# Altium integrated library Diodes - TVS.IntLib: 5379 symbols (part 122 of 122)
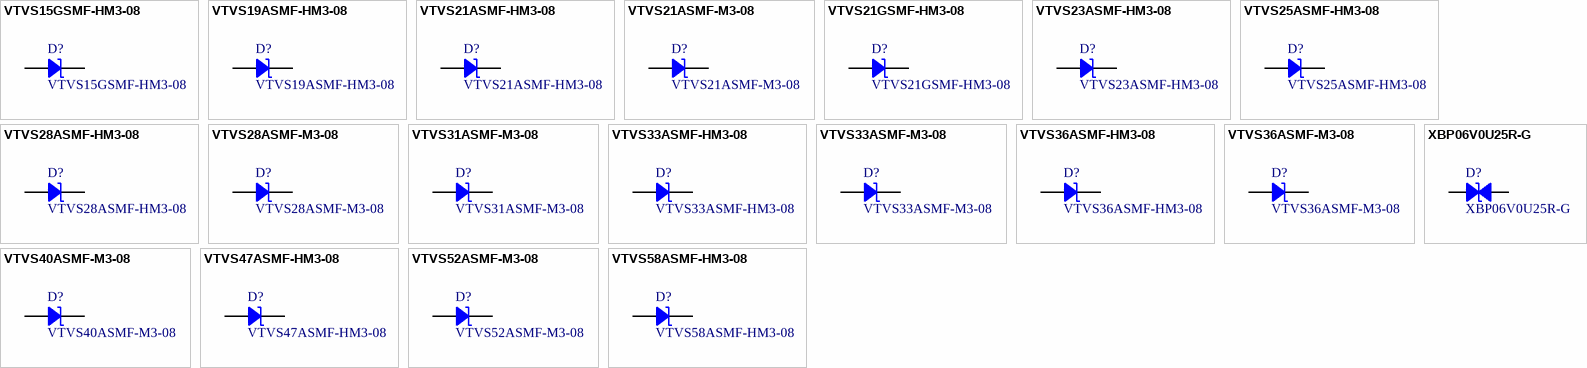
[diagram p255: symbols VTVS15GSMF-HM3-08 to XBP06V0U25R-G]

## VTVS33ASMF-HM3-08
designator D?
TVS DIODE 33.3V 55V DO219AB; Manufacturer: Vishay Semiconductor Diodes Division; Capacitance @ Frequency: 379pF @ 1MHz; Current - Peak Pulse (10/1000µs): 6.91A; Power Line Protection: No; Power - Peak Pulse: 400W; Type: Zener; Unidirectional Channels: 1; Voltage - Breakdown (Min): 37.1V; Part Number: VTVS33ASMF-HM3-08; Applications: Automotive; ComponentLink1Description: Datasheet; ComponentLink1URL: http://www.vishay.com/docs/85891/vtvs3v3asmf.pdf; ComponentLink2Description: DigiKey Link; ComponentLink2URL: http://digikey.com/product-detail/en/vishay-semiconductor-diodes-division/VTVS33ASMF-HM3-08/VTVS33ASMF-HM3-08GICT-ND/7055993; LastUpdated: 9/2/2020 1:27:45 AM; Lifecycle Status: Active; Minimum Order: 1; Mounting Type: Surface Mount; Operating Temperature: -55°C ~ 175°C (TJ); Package / Case: DO-219AB; Packaging: TapeAndReel; PartId: 5526; Part Status: Active; Price: 0.12; Series: Automotive, AEC-Q101, TransZorb®; Supplier 1: DigiKey; Supplier Part Number 1: VTVS33ASMF-HM3-08GICT-ND; Supplier Device Package: DO-219AB (SMF); Voltage - Clamping (Max) @ Ipp: 55V; Voltage - Reverse Standoff (Typ): 33.3V
footprint SMF DO-219AB
pins: 1, 2

## VTVS33ASMF-M3-08
designator D?
TVS DIODE 33.3V 55V DO219AB; Manufacturer: Vishay Semiconductor Diodes Division; Capacitance @ Frequency: 379pF @ 1MHz; Current - Peak Pulse (10/1000µs): 6.91A; Power Line Protection: No; Power - Peak Pulse: 400W; Type: Zener; Unidirectional Channels: 1; Voltage - Breakdown (Min): 37.1V; Part Number: VTVS33ASMF-M3-08; Applications: General Purpose; ComponentLink1Description: Datasheet; ComponentLink1URL: http://www.vishay.com/docs/85891/vtvs3v3asmf.pdf; ComponentLink2Description: DigiKey Link; ComponentLink2URL: http://digikey.com/product-detail/en/vishay-semiconductor-diodes-division/VTVS33ASMF-M3-08/VTVS33ASMF-M3-08GICT-ND/7055994; LastUpdated: 9/2/2020 1:27:45 AM; Lifecycle Status: Active; Minimum Order: 1; Mounting Type: Surface Mount; Operating Temperature: -55°C ~ 175°C (TJ); Package / Case: DO-219AB; Packaging: TapeAndReel; PartId: 5491; Part Status: Active; Price: 0.11; Series: TransZorb®; Supplier 1: DigiKey; Supplier Part Number 1: VTVS33ASMF-M3-08GICT-ND; Supplier Device Package: DO-219AB (SMF); Voltage - Clamping (Max) @ Ipp: 55V; Voltage - Reverse Standoff (Typ): 33.3V
footprint SMF DO-219AB
pins: 1, 2

## VTVS36ASMF-HM3-08
designator D?
TVS DIODE 36V 61V DO219AB; Manufacturer: Vishay Semiconductor Diodes Division; Capacitance @ Frequency: 342pF @ 1MHz; Current - Peak Pulse (10/1000µs): 6.24A; Power Line Protection: No; Power - Peak Pulse: 400W; Type: Zener; Unidirectional Channels: 1; Voltage - Breakdown (Min): 40.9V; Part Number: VTVS36ASMF-HM3-08; Applications: Automotive; ComponentLink1Description: Datasheet; ComponentLink1URL: http://www.vishay.com/docs/85891/vtvs3v3asmf.pdf; ComponentLink2Description: DigiKey Link; ComponentLink2URL: http://digikey.com/product-detail/en/vishay-semiconductor-diodes-division/VTVS36ASMF-HM3-08/VTVS36ASMF-HM3-08GICT-ND/8565411; LastUpdated: 9/2/2020 1:27:46 AM; Lifecycle Status: Active; Minimum Order: 1; Mounting Type: Surface Mount; Operating Temperature: -55°C ~ 175°C (TJ); Package / Case: DO-219AB; Packaging: TapeAndReel; PartId: 5536; Part Status: Active; Price: 0.12; Series: Automotive, AEC-Q101, TransZorb®; Supplier 1: DigiKey; Supplier Part Number 1: VTVS36ASMF-HM3-08GICT-ND; Supplier Device Package: DO-219AB (SMF); Voltage - Clamping (Max) @ Ipp: 61V; Voltage - Reverse Standoff (Typ): 36V
footprint SMF DO-219AB
pins: 1, 2

## VTVS36ASMF-M3-08
designator D?
TVS DIODE 36V 61V DO219AB; Manufacturer: Vishay Semiconductor Diodes Division; Capacitance @ Frequency: 342pF @ 1MHz; Current - Peak Pulse (10/1000µs): 6.24A; Power Line Protection: No; Power - Peak Pulse: 400W; Type: Zener; Unidirectional Channels: 1; Voltage - Breakdown (Min): 40.9V; Part Number: VTVS36ASMF-M3-08; Applications: General Purpose; ComponentLink1Description: Datasheet; ComponentLink1URL: http://www.vishay.com/docs/85891/vtvs3v3asmf.pdf; ComponentLink2Description: DigiKey Link; ComponentLink2URL: http://digikey.com/product-detail/en/vishay-semiconductor-diodes-division/VTVS36ASMF-M3-08/VTVS36ASMF-M3-08GICT-ND/8565412; LastUpdated: 9/2/2020 1:27:46 AM; Lifecycle Status: Active; Minimum Order: 1; Mounting Type: Surface Mount; Operating Temperature: -55°C ~ 175°C (TJ); Package / Case: DO-219AB; Packaging: TapeAndReel; PartId: 5531; Part Status: Active; Price: 0.11; Series: TransZorb®; Supplier 1: DigiKey; Supplier Part Number 1: VTVS36ASMF-M3-08GICT-ND; Supplier Device Package: DO-219AB (SMF); Voltage - Clamping (Max) @ Ipp: 61V; Voltage - Reverse Standoff (Typ): 36V
footprint SMF DO-219AB
pins: 1, 2

## VTVS40ASMF-M3-08
designator D?
TVS DIODE 39.6V 67V DO219AB; Manufacturer: Vishay Semiconductor Diodes Division; Capacitance @ Frequency: 309pF @ 1MHz; Current - Peak Pulse (10/1000µs): 5.7A; Power Line Protection: No; Power - Peak Pulse: 400W; Type: DO-219AB; Unidirectional Channels: 1; Voltage - Breakdown (Min): 44.7V; Part Number: VTVS40ASMF-M3-08; Applications: General Purpose; ComponentLink1Description: Datasheet; ComponentLink1URL: http://www.vishay.com/docs/85891/vtvs3v3asmf.pdf; ComponentLink2Description: DigiKey Link; ComponentLink2URL: http://digikey.com/product-detail/en/vishay-semiconductor-diodes-division/VTVS40ASMF-M3-08/112-VTVS40ASMF-M3-08CT-ND/11562590; LastUpdated: 9/2/2020 1:27:45 AM; Lifecycle Status: Active; Minimum Order: 0; Mounting Type: Surface Mount; Operating Temperature: -55°C ~ 175°C (TJ); Package / Case: DO-219AB; Packaging: TapeAndReel; PartId: 5481; Part Status: -55°C ~ 175°C (TJ); Price: 0.09; Series: TransZorb®; Supplier 1: DigiKey; Supplier Part Number 1: 112-VTVS40ASMF-M3-08CT-ND; Supplier Device Package: DO-219AB (SMF); Voltage - Clamping (Max) @ Ipp: 67V; Voltage - Reverse Standoff (Typ): 39.6V
footprint SMF DO-219AB
pins: 1, 2

## VTVS47ASMF-HM3-08
designator D?
TVS DIODE 46.8V 80V DO219AB; Manufacturer: Vishay Semiconductor Diodes Division; Capacitance @ Frequency: 293pF @ 1MHz; Current - Peak Pulse (10/1000µs): 4.76A; Power Line Protection: No; Power - Peak Pulse: 400W; Type: DO-219AB; Unidirectional Channels: 1; Voltage - Breakdown (Min): 53.2V; Part Number: VTVS47ASMF-HM3-08; Applications: Automotive; ComponentLink1Description: Datasheet; ComponentLink1URL: http://www.vishay.com/docs/85891/vtvs3v3asmf.pdf; ComponentLink2Description: DigiKey Link; ComponentLink2URL: http://digikey.com/product-detail/en/vishay-semiconductor-diodes-division/VTVS47ASMF-HM3-08/112-VTVS47ASMF-HM3-08CT-ND/11562573; LastUpdated: 9/2/2020 1:27:45 AM; Lifecycle Status: Active; Minimum Order: 0; Mounting Type: Surface Mount; Operating Temperature: -55°C ~ 175°C (TJ); Package / Case: DO-219AB; Packaging: TapeAndReel; PartId: 5478; Part Status: -55°C ~ 175°C (TJ); Price: 0.10; Series: Automotive, AEC-Q101, TransZorb®; Supplier 1: DigiKey; Supplier Part Number 1: 112-VTVS47ASMF-HM3-08CT-ND; Supplier Device Package: DO-219AB (SMF); Voltage - Clamping (Max) @ Ipp: 80V; Voltage - Reverse Standoff (Typ): 46.8V
footprint SMF DO-219AB
pins: 1, 2

## VTVS52ASMF-M3-08
designator D?
TVS DIODE 52.2V 89V DO219AB; Manufacturer: Vishay Semiconductor Diodes Division; Capacitance @ Frequency: 242pF @ 1MHz; Current - Peak Pulse (10/1000µs): 4.28A; Power Line Protection: No; Power - Peak Pulse: 400W; Type: DO-219AB; Unidirectional Channels: 1; Voltage - Breakdown (Min): 58.9V; Part Number: VTVS52ASMF-M3-08; Applications: General Purpose; ComponentLink1Description: Datasheet; ComponentLink1URL: http://www.vishay.com/docs/85891/vtvs3v3asmf.pdf; ComponentLink2Description: DigiKey Link; ComponentLink2URL: http://digikey.com/product-detail/en/vishay-semiconductor-diodes-division/VTVS52ASMF-M3-08/112-VTVS52ASMF-M3-08CT-ND/11562544; LastUpdated: 9/2/2020 1:27:45 AM; Lifecycle Status: Active; Minimum Order: 0; Mounting Type: Surface Mount; Operating Temperature: -55°C ~ 175°C (TJ); Package / Case: DO-219AB; Packaging: TapeAndReel; PartId: 5483; Part Status: -55°C ~ 175°C (TJ); Price: 0.09; Series: TransZorb®; Supplier 1: DigiKey; Supplier Part Number 1: 112-VTVS52ASMF-M3-08CT-ND; Supplier Device Package: DO-219AB (SMF); Voltage - Clamping (Max) @ Ipp: 89V; Voltage - Reverse Standoff (Typ): 52.2V
footprint SMF DO-219AB
pins: 1, 2

## VTVS58ASMF-HM3-08
designator D?
TVS DIODE 57.6V 98V DO219AB; Manufacturer: Vishay Semiconductor Diodes Division; Capacitance @ Frequency: 245pF @ 1MHz; Current - Peak Pulse (10/1000µs): 3.89A; Power Line Protection: No; Power - Peak Pulse: 400W; Type: DO-219AB; Unidirectional Channels: 1; Voltage - Breakdown (Min): 64.6V; Part Number: VTVS58ASMF-HM3-08; Applications: Automotive; ComponentLink1Description: Datasheet; ComponentLink1URL: http://www.vishay.com/docs/85891/vtvs3v3asmf.pdf; ComponentLink2Description: DigiKey Link; ComponentLink2URL: http://digikey.com/product-detail/en/vishay-semiconductor-diodes-division/VTVS58ASMF-HM3-08/112-VTVS58ASMF-HM3-08CT-ND/11562600; LastUpdated: 9/2/2020 1:27:45 AM; Lifecycle Status: Active; Minimum Order: 0; Mounting Type: Surface Mount; Operating Temperature: -55°C ~ 175°C (TJ); Package / Case: DO-219AB; Packaging: TapeAndReel; PartId: 5476; Part Status: -55°C ~ 175°C (TJ); Price: 0.10; Series: Automotive, AEC-Q101, TransZorb®; Supplier 1: DigiKey; Supplier Part Number 1: 112-VTVS58ASMF-HM3-08CT-ND; Supplier Device Package: DO-219AB (SMF); Voltage - Clamping (Max) @ Ipp: 98V; Voltage - Reverse Standoff (Typ): 57.6V
footprint SMF DO-219AB
pins: 1, 2

## XBP06V0U25R-G
designator D?
LOW CAPACITANCE TVS DIODE; Manufacturer: Torex Semiconductor Ltd; Bidirectional Channels: 1; Capacitance @ Frequency: 0.25pF @ 1MHz; Current - Peak Pulse (10/1000µs): 2A (8/20µs); Power Line Protection: No; Type: Zener; Voltage - Breakdown (Min): 6V; Voltage - Clamping (Max) @ Ipp: 14V; Voltage - Reverse Standoff (Typ): 5V (Max); Part Number: XBP06V0U25R-G; Applications: DVI, HDMI, USB; ComponentLink1Description: Datasheet; ComponentLink1URL: https://www.torexsemi.com/file/xbp06v0u25r/XBP06V0U25R.pdf; ComponentLink2Description: DigiKey Link; ComponentLink2URL: http://digikey.com/product-detail/en/torex-semiconductor-ltd/XBP06V0U25R-G/893-1446-1-ND/9770797; Device Package: 0402 (1006 Metric); LastUpdated: 9/2/2020 1:28:48 AM; Lifecycle Status: Active; Minimum Order: 1; Mounting Type: Surface Mount; Operating Temperature: -55°C ~ 125°C (TJ); Package / Case: 0402 (1006 Metric); Packaging: TapeAndReel; PartId: 10432; Part Status: Active; Price: 0.07; Series: -; Supplier 1: DigiKey; Supplier Part Number 1: 893-1446-1-ND; Supplier Device Package: FBP1006-2A
footprint 0402
pins: 1, 2